# Altium footprint library T491A106K006AT.PcbLib: 3 footprints
Each footprint in its own frame and in the unit in brackets; x right, y up, seen from the top. Pads: shape width x height; smd on the part's side, far side on the other; paste and mask are expansions set on the pad; w line width, h text height; cw(c..) or ccw(c..) is an arc to the next point about the centre after c.
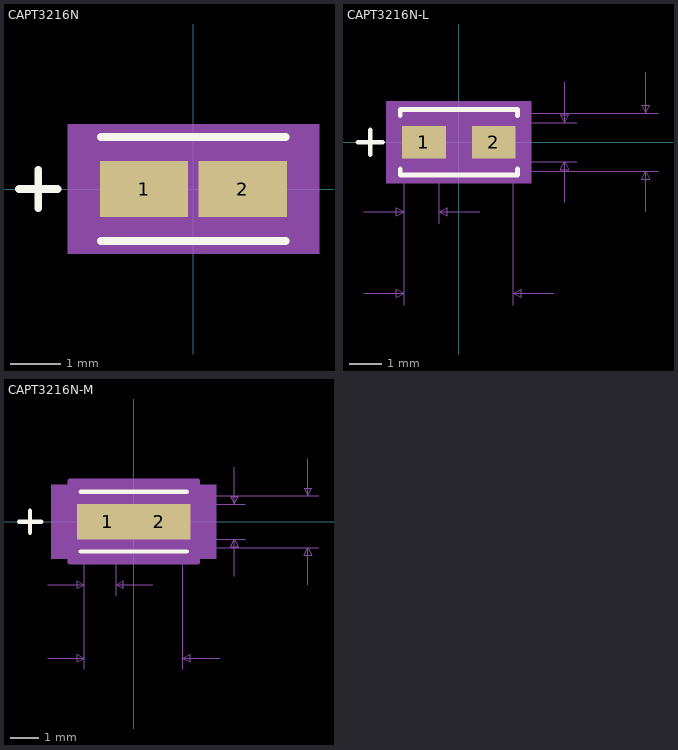
[diagram p0: the footprints below, top view; thin cyan lines are the x and y axes]

## CAPT3216N [mil]
pads (2):
  rect 69x44 smd paste+0 mask+0: 1(-38.5,0) 2(38.5,0)
Top Overlay:
  lines w6: -136,0 -106,0 ; -121,-15 -121,15 ; -72,-40.5 72,-40.5 ; -72,40.5 72,40.5
Mechanical 5:
  region: 98,-50.5 -98,-50.5 -98,50.5 98,50.5
Mechanical 13:
  lines w1: -136,0 -106,0 ; -121,-15 -121,15 ; -67,-35.5 67,-35.5 67,35.5 -67,35.5 -67,-35.5
Mechanical 15:
  region: -77,-32 -83,-32 -83,32 -77,32 -77,45.5 77,45.5 77,32 83,32 83,-32 77,-32 77,-45.5 -77,-45.5
  lines w6: -83,-32 -83,32 -77,32 -77,45.5 77,45.5 77,32 83,32 83,-32 77,-32 77,-45.5 -77,-45.5 -77,-32 -83,-32
3D body: height 10, standoff 0, extent 0,0 10,10
3D body: height 72.99, standoff 0, extent -67.01,-35.51 67.01,35.52

## CAPT3216N-L [mil]
pads (2):
  rect 54x40 smd paste+0 mask+0: 1(-43,0) 2(43,0)
Top Overlay:
  lines w6: -124,0 -94,0 ; -109,-15 -109,15 ; -72,-32.95 -72,-40.5 72,-40.5 72,-32.95 ; -72,32.95 -72,40.5 72,40.5 72,32.95
Mechanical 5:
  region: 89,-50.5 -89,-50.5 -89,50.5 89,50.5
Mechanical 7:
  lines w1: -117,-185.5 -67,-185.5 ; -117,-85.5 -67,-85.5 ; -67,-200.5 -67,0 -67,-100.5 ; -24,-100.5 -24,0 ; 26,-85.5 -24,-85.5 ; 67,-200.5 67,0 ; 80,-35.5 245,-35.5 ; 80,-24 145,-24 ; 80,24 145,24 ; 80,35.5 245,35.5 ; 117,-185.5 67,-185.5 ; 130,-74 130,-24 ; 130,74 130,24 ; 230,-85.5 230,-35.5 ; 230,85.5 230,35.5 ; -67,-185.5 -77,-190.5 -77,-180.5 -67,-185.5 ; -67,-85.5 -77,-90.5 -77,-80.5 -67,-85.5 ; -24,-85.5 -14,-90.5 -14,-80.5 -24,-85.5 ; 67,-185.5 77,-190.5 77,-180.5 67,-185.5 ; 130,-24 135,-34 125,-34 130,-24 ; 130,24 135,34 125,34 130,24 ; 230,-35.5 235,-45.5 225,-45.5 230,-35.5 ; 230,35.5 235,45.5 225,45.5 230,35.5
  text "0.043in/1.092mm" at -139.25,-130.5 h25
  text "0.134in/3.404mm" at -93.75,-230.5 h25
  text "0.071in/1.803mm" at 250,-12.5 h25
  text "0.048in/1.219mm" at 150,-12.5 h25
  text "Alt 2 Padstyle: OX90Y60D30P" at -337.5,-460.5 h50
  text "Alt 1 Padstyle: OX60Y90D30P" at -337.5,-385.5 h50
  text "Default Padstyle: RX54Y40D0T" at -350,-310.5 h50
Mechanical 13:
  lines w1: -124,0 -94,0 ; -109,-15 -109,15 ; -67,-35.5 -67,35.5 67,35.5 67,-35.5 -67,-35.5
Mechanical 15:
  region: -71,-24 -74,-24 -74,24 -71,24 -71,39.5 71,39.5 71,24 74,24 74,-24 71,-24 71,-39.5 -71,-39.5
  lines w6: -74,-24 -71,-24 -71,-39.5 71,-39.5 71,-24 74,-24 74,24 71,24 71,39.5 -71,39.5 -71,24 -74,24 -74,-24
3D body: height 72.99, standoff 0, extent -67,-35.51 67.02,35.52
3D body: height 10, standoff 0, extent 0,0 10,10

## CAPT3216N-M [mil]
pads (2):
  rect 84x48 smd paste+0 mask+0: 1(-35,0) 2(35,0)
Top Overlay:
  lines w6: -156,0 -126,0 ; -141,-15 -141,15 ; -72,-40.5 72,-40.5 ; -72,40.5 72,40.5
Mechanical 5:
  region: 112,-50.5 -112,-50.5 -112,50.5 112,50.5
Mechanical 7:
  lines w1: -117,-185.5 -67,-185.5 ; -117,-85.5 -67,-85.5 ; -67,-200.5 -67,0 -67,-100.5 ; -24,-100.5 -24,0 ; 26,-85.5 -24,-85.5 ; 67,-200.5 67,0 ; 87,-35.5 252,-35.5 ; 87,-24 152,-24 ; 87,24 152,24 ; 87,35.5 252,35.5 ; 117,-185.5 67,-185.5 ; 137,-74 137,-24 ; 137,74 137,24 ; 237,-85.5 237,-35.5 ; 237,85.5 237,35.5 ; -67,-185.5 -77,-190.5 -77,-180.5 -67,-185.5 ; -67,-85.5 -77,-90.5 -77,-80.5 -67,-85.5 ; -24,-85.5 -14,-90.5 -14,-80.5 -24,-85.5 ; 67,-185.5 77,-190.5 77,-180.5 67,-185.5 ; 137,-24 142,-34 132,-34 137,-24 ; 137,24 142,34 132,34 137,24 ; 237,-35.5 242,-45.5 232,-45.5 237,-35.5 ; 237,35.5 242,45.5 232,45.5 237,35.5
  text "0.043in/1.092mm" at -139.25,-130.5 h25
  text "0.134in/3.404mm" at -93.75,-230.5 h25
  text "0.071in/1.803mm" at 257,-12.5 h25
  text "0.048in/1.219mm" at 157,-12.5 h25
  text "Alt 2 Padstyle: OX90Y60D30P" at -337.5,-460.5 h50
  text "Alt 1 Padstyle: OX60Y90D30P" at -337.5,-385.5 h50
  text "Default Padstyle: RX84Y48D0T" at -350,-310.5 h50
Mechanical 13:
  lines w1: -156,0 -126,0 ; -141,-15 -141,15 ; -67,-35.5 -67,35.5 67,35.5 67,-35.5 -67,-35.5
Mechanical 15:
  region: -87,-44 -97,-44 -97,44 -87,44 -87,55.5 87,55.5 87,44 97,44 97,-44 87,-44 87,-55.5 -87,-55.5
  lines w6: -97,-44 -87,-44 -87,-55.5 87,-55.5 87,-44 97,-44 97,44 87,44 87,55.5 -87,55.5 -87,44 -97,44 -97,-44
3D body: height 72.99, standoff 0, extent -67,-35.5 67.01,35.52
3D body: height 10, standoff 0, extent 0,0 10,10